# Altium footprint library Led0805.PcbLib: 2 footprints
Each footprint in its own frame and in the unit in brackets; x right, y up, seen from the top. Pads: shape width x height; smd on the part's side, far side on the other; paste and mask are expansions set on the pad; w line width, h text height; cw(c..) or ccw(c..) is an arc to the next point about the centre after c.
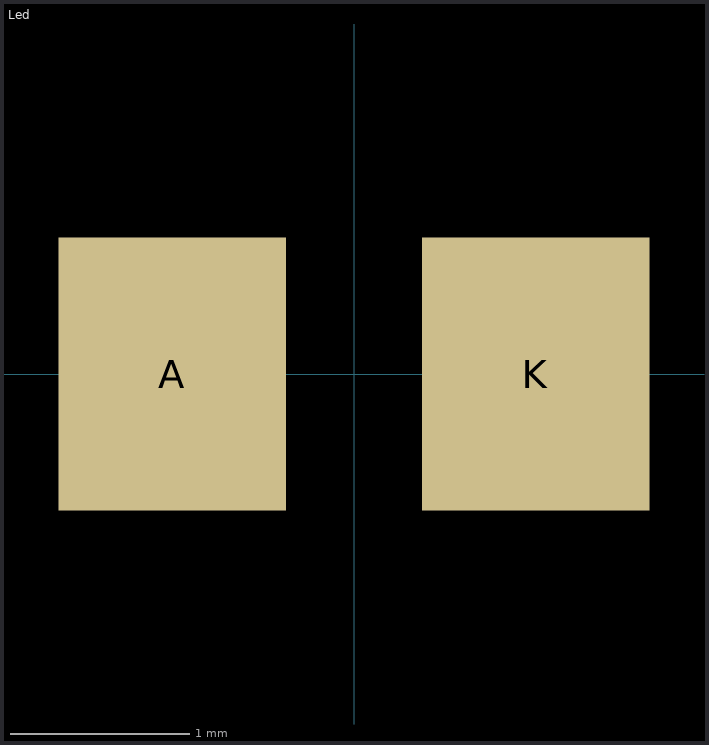
[diagram p0: the footprints below, top view; thin cyan lines are the x and y axes]

## Led [mil]
pads (2):
  rect 50x60 smd: A(-40,0) K(40,0)
3D body "597-3305-607F.STEP": height 27.56, standoff 0, extent -39.37,-24.61 39.37,24.61

## PCBComponent_1 [mil]